# Altium schematic symbol library USB-Mini.SchLib: 1 symbol
Pins are listed as number, name and electrical type; pins without a type are passive.

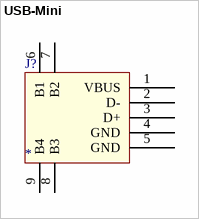
[diagram p0: symbol USB-Mini]

## USB-Mini
designator J?
pins: 1 VBUS (power), 2 D-, 3 D+, 4 GND (power), 5 GND, 6 B1, 7 B2, 8 B3, 9 B4